# EAGLE library part W5500 (library W5500)
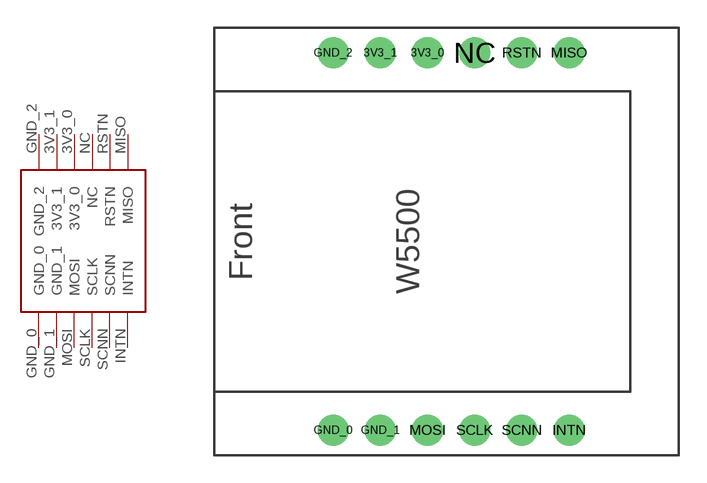
[diagram p0: symbol with the pads of W5500; footprint W5500]

Designator prefix -

## W5500  [W5500]
3V3_0  3V3_0
3V3_1  3V3_1
GND_0  GND_0
GND_1  GND_1
GND_2  GND_2
INTN  INTN
MISO  MISO
MOSI  MOSI
NC  NC
RSTN  RSTN
SCLK  SCLK
SCNN  SCNN

## Footprint W5500 (pad centres in mm)
drill 1.016 pad 1.676: 3V3_0 5.08,10.16; 3V3_1 2.54,10.16; GND_0 0,-10.16; GND_1 2.54,-10.16; GND_2 0,10.16; INTN 12.7,-10.16; MISO 12.7,10.16; MOSI 5.08,-10.16; NC 7.62,10.16; RSTN 10.16,10.16; SCLK 7.62,-10.16; SCNN 10.16,-10.16